# Altium schematic symbol library En.SCHLIB: 144 symbols (part 1 of 2)
Pins are listed as number, name and electrical type; pins without a type are passive.

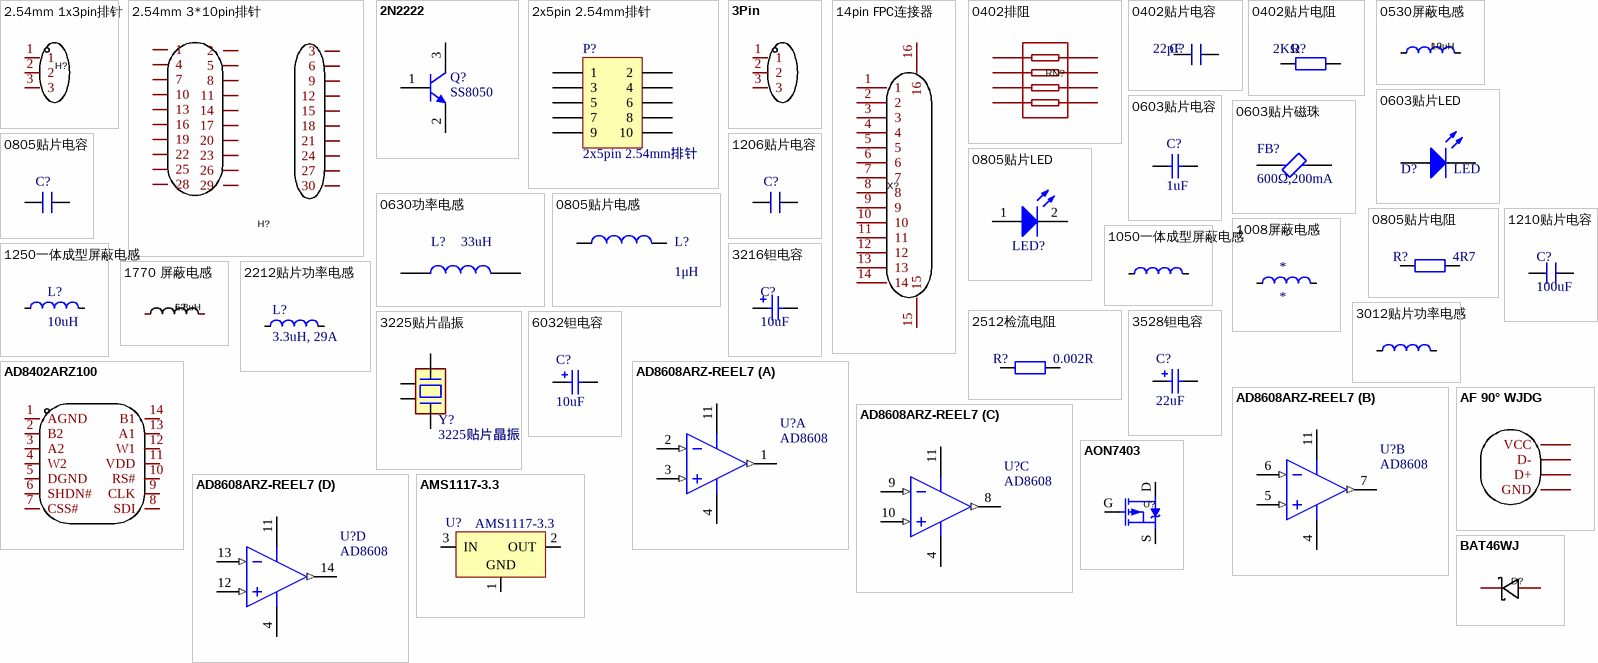
[diagram p0: symbols 2.54mm 1x3pin排针 to BAT46WJ]

## 2.54mm 1x3pin排针
designator H?, comment PZ254V-11-03P  (value not drawn)
2.54mm 1x3pin排针; Manufacturer: XFCN(兴飞); Symbol: PZ254V-11-03P_C2937625; Add into BOM: yes; Pin Structure: 1x3P; Circluar Pins/Square Pins: 方针; Current Rating (Max): 3A; Voltage Rating (Max): 250V; Device: PZ254V-11-03P; LCSC Part Name: 间距:2.54mm 1x3P 直插 方针; Supplier Part: C2937625; Manufacturer Part: PZ254V-11-03P; Supplier Footprint: 插件,P=2.54mm; JLCPCB Part Class: Extended Part; Datasheet: https://atta.szlcsc.com/upload/public/pdf/source/20200309/C492402_8335C3D49C4E4C618838D59BB1D024C1.pdf; Supplier: LCSC; Convert to PCB: yes; Pitch: 2.54mm; Row Spacing: -; Mounting Type: 直插; Number of Rows: 单排; Number of Pins: 3P; Length of Mating Pin: 6mm; Insulation Height: 2.5mm; Length of End Connection Pin: 3mm; Operating Temperature Range: -40℃~+105℃; Color: 黑色
footprint HDR-TH_3P-P2.54-V-M
pins: 1, 2, 3

## 2.54mm 3*10pin排针
designator H?  (value not drawn)
Manufacturer: Wcon(维峰电子); Symbol: 1125-1317G0S116C001; Add into BOM: yes; Pin Structure: 3x17P; Circluar Pins/Square Pins: 方针; Current Rating (Max): 3A; Device: 1125-1317G0S116C001; LCSC Part Name: 间距:2.54mm 3x17P 直插 方针; Supplier Part: C920773; Manufacturer Part: 1125-1317G0S116C001; Supplier Footprint: 插件,P=2.54mm; JLCPCB Part Class: Extended Part; Datasheet: https://atta.szlcsc.com/upload/public/pdf/source/20211207/30DA2ABB6762517FDD65C6A2AE5F4869.pdf; Supplier: LCSC; Convert to PCB: yes; Pitch: 2.54mm; Row Spacing: 2.54mm; Mounting Type: 直插; Number of Rows: 三排; Number of Pins: 51P; Voltage Rating (Max): -; Length of Mating Pin: 6.1mm; Insulation Height: 2.5mm; Length of End Connection Pin: 3mm; Operating Temperature Range: -40℃~+105℃; Color: 黑色
footprint HDR-TH_51P-P2.54-V-M-R3-C17
pins: 1, 2, 3, 4, 5, 6, 7, 8, 9, 10, 11, 12, 13, 14, 15, 16, 17, 18, 19, 20, 21, 22, 23, 24, 25, 26, 27, 28, 29, 30

## 2N2222
designator Q?, comment SS8050
三极管
footprint SOT-23-3_L2.9-W1.3-P1.90-LS2.4-BR
pins: 1 B, 2 E, 3 C

## 2x5pin 2.54mm排针
designator P?
LatestRevisionDate: 17-Jul-2002; LatestRevisionNote: Re-released for DXP Platform.; Publisher: Altium Limited
footprint HDR2.54-LI-2x5P (双排排针，5x2脚)
signal-integrity model Connector
pins: 1, 2, 3, 4, 5, 6, 7, 8, 9, 10

## 3Pin
designator U?, comment ZX-XH2.54-3PZZ  (value not drawn)
XH2.54 3Pin 接口; Manufacturer: Megastar(兆星); Add into BOM: yes; Pins Structure: 1x3P; Pitch: 2.54mm; Reference Series: XH; Number of PINs Per Row: 3; Current Rating (Max): 3A; Symbol: ZX-XH2.54-3PZZ; Device: ZX-XH2.54-3PZZ; Supplier: LCSC; Supplier Part: C7429633; Manufacturer Part: ZX-XH2.54-3PZZ; JLCPCB Part Class: Extended Part; LCSC Part Name: ZX-XH2.54-3PZZ; Supplier Footprint: 插件,P=2.54mm; Datasheet: https://atta.szlcsc.com/upload/public/pdf/source/20230619/AE17037A2CFDBE8D9CBA775D61AD0A84.pdf; Convert to PCB: yes; Mounting Style: 直插; Number of Pins: 3P; Number of Rows: 1; Row Spacing: -; Contact Material: 黄铜; Contact Plating: 锡; Operating Temperature Range: -25℃~+85℃
footprint CONN-TH_3P-P2.54_2501S-3P
pins: 1, 2, 3

## 14pin FPC连接器
designator X?  (value not drawn)
Manufacturer: JS(钜硕电子); Symbol: AFC01-S14FCA-00; Add into BOM: yes; Locking Feature: 翻盖式; Number of Contacts: 14P; Pitch: 0.5mm; FFC, FCB Thickness: 0.3mm; Device: AFC01-S14FCA-00; Supplier: LCSC; Supplier Part: C262663; Manufacturer Part: AFC01-S14FCA-00; JLCPCB Part Class: Extended Part; LCSC Part Name: 间距:0.5mm P数:14P 翻盖式 下接; Supplier Footprint: SMD,P=0.5mm,卧贴; Datasheet: https://atta.szlcsc.com/upload/public/pdf/source/20190816/C413942_2A72D1AC756EAE17EEDF756A339D4500.pdf; Convert to PCB: yes; Contact Type: 下接; Mounting Type: 卧贴; Height Above Board: 2mm; Operating Temperature Range: -
footprint FPC-SMD_AFC01-S14FCA-00
pins: 1, 2, 3, 4, 5, 6, 7, 8, 9, 10, 11, 12, 13, 14, 15, 16

## 0402排阻
designator RN?  (value not drawn)
Manufacturer: UNI-ROYAL(厚声); Symbol: 4D02WGJ0103TCE; Add into BOM: yes; Number of Resistors: 4; Value: 10kΩ; Tolerance: ±5%; Power(Watts): 62.5mW; Temperature Coefficient: ±200ppm/℃; Device: 4D02WGJ0103TCE; LCSC Part Name: 10kΩ ±5%; Supplier Part: C25725; Manufacturer Part: 4D02WGJ0103TCE; Supplier Footprint: 0402x4; JLCPCB Part Class: Extended Part; Datasheet: https://atta.szlcsc.com/upload/public/pdf/source/20191224/C474318_2527498AE30E813171187CCD28401A71.pdf; Supplier: LCSC; Convert to PCB: yes; Number of Pins: 8
footprint RES-ARRAY-SMD_0402-8P-L2.0-W1.0-BL
pins: 1, 2, 3, 4, 5, 6, 7, 8

## 0402贴片电容
designator C?, comment 22pF
贴片电容0402
footprint c0402
pins: 1, 2

## 0402贴片电阻
designator R?, comment 2KΩ
0402贴片电阻; W: *
footprint R0402 (1/16W)
pins: 1, 2

## 0530屏蔽电感
designator L?, comment 10uH
一体成型屏蔽电感，0530封装，额定电流3A; Manufacturer: XR(祥如); Symbol: XR0530-100M; Add into BOM: yes; Tolerance: ±20%; Rated Current: 3.2A; Saturation Current (Isat): 3.5A; DC Resistance (DCR): 125mΩ; Type: 一体成型电感; Device: XR0530-100M; LCSC Part Name: 10uH ±20% 3.5A; Supplier Part: C5307602; Manufacturer Part: XR0530-100M; Supplier Footprint: SMD,0530; JLCPCB Part Class: Extended Part; Datasheet: https://atta.szlcsc.com/upload/public/pdf/source/20240328/42FE63A3232C4AF7EB8F1CDEDD5FC69F.pdf; Supplier: LCSC; Convert to PCB: yes; Value: 10uH
footprint IND-SMD_L5.4-W5.2
3D model IND-SMD_L5.4-W5.2-H3.0
pins: 1, 2

## 0603贴片LED
designator D?, comment LED
0603LED
footprint LED 0603R (红色0603LED)
pins: 1 A, 2 K

## 0603贴片电容
designator C?, comment 1uF
0603贴片电容
simulation model CAP (Capacitor)
signal-integrity model Cap
footprint C 0603_M (无极性贴片电容)
pins: 1, 2

## 0603贴片磁珠
designator FB?, comment 600Ω,200mA
0603贴片磁珠
footprint FB0603_M (0603贴片磁珠)
pins: 1, 2

## 0630功率电感
designator L?, comment 33uH
一体成型屏蔽电感
simulation model INDUCTOR (Inductor)
signal-integrity model Inductor Iron
footprint L-SMD-0630 (一体化成型电感)
pins: 1, 2

## 0805贴片LED
designator LED?, comment LED  (value not drawn)
0805贴片LED
footprint led0805 (1/8W)
pins: 1 A, 2 K

## 0805贴片电容
designator C?, comment 100nF  (value not drawn)
0805贴片电容
footprint C0805
pins: 1, 2

## 0805贴片电感
designator L?, comment 1μH
0805贴片电感
footprint L0805
pins: 1, 2

## 0805贴片电阻
designator R?, comment 4R7
0805贴片电阻
simulation model RESISTOR (Resistor)
signal-integrity model Res
footprint R 0805_M (1/8W贴片电阻)
pins: 1, 2

## 1008屏蔽电感
designator *
footprint IND-SMD_L2.5-W2.0
pins: 1, 2

## 1050一体成型屏蔽电感
designator L?, comment 10uH  (value not drawn)
1050一体成型屏蔽电感; Manufacturer: DMBJ(振宝佳); Symbol: CXP1050-4R7M-AG(4.7UH); Add into BOM: yes; Value: 4.7uH; Tolerance: ±20%; Rated Current: 9.5A; Saturation Current (Isat): 15A; DC Resistance (DCR): 15mΩ; Type: 一体成型电感; Device: CXP1050-4R7M-AG(4.7uh); LCSC Part Name: 4.7uH ±20% 15A; Supplier Part: C7461389; Manufacturer Part: CXP1050-4R7M-AG(4.7uh); Supplier Footprint: 1050; JLCPCB Part Class: Extended Part; Datasheet: https://atta.szlcsc.com/upload/public/pdf/source/20230706/7F3A5B39C5AD80A91C9FA782B54A296B.pdf; Supplier: LCSC; Convert to PCB: yes
footprint IND-SMD_L11.0-W10.2
pins: 1, 2

## 1206贴片电容
designator C?, comment 100nF  (value not drawn)
1206贴片电容
footprint 1206
pins: 1, 2

## 1210贴片电容
designator C?, comment 100uF
1210贴片电容
footprint 1210
pins: 1, 2

## 1250一体成型屏蔽电感
designator L?, comment 10uH
1250一体成型屏蔽电感
footprint IND-SMD_L13.5-W12.8
pins: 1, 2

## 1770 屏蔽电感
designator L?, comment 6.8uH
Manufacturer: SXN(顺翔诺); Symbol: SMMS1770-3R3M; Add into BOM: yes; Value: 3.3uH; Tolerance: ±20%; Rated Current: 28A; Saturation Current (Isat): 54A; DC Resistance (DCR): 4.2mΩ; Type: 一体成型电感; Device: SMMS1770-3R3M; LCSC Part Name: 3.3uH ±20% 54A; Supplier Part: C2976964; Manufacturer Part: SMMS1770-3R3M; Supplier Footprint: SMD,17.5x17.15x7mm; JLCPCB Part Class: Extended Part; Datasheet: https://atta.szlcsc.com/upload/public/pdf/source/20220224/D8C8E12B51A4AD75CA32F676574334C0.pdf; Supplier: LCSC; Convert to PCB: yes; Ratings: -
footprint IND-SMD_L17.5-W17.2
3D model IND-SMD_L17.5-W17.2-H7.0
pins: 1, 2

## 2212贴片功率电感
designator L?, comment 3.3uH, 29A
2212贴片功率电感; Manufacturer Part Number: 74435580330; Manufacturer: Wurth Elektronik; DC Resistance: 1.7mOhm; Material: MnZn; Self Resonant Frequency: 26.5MHz; Saturation Current: 45A; Rated Inductance: 2.85uH; ComponentLink1Description: Manufacturer; ComponentLink1URL: http://www.we-online.de; ComponentLink2Description: Datasheet; ComponentLink2URL: https://www.we-online.com/catalog/datasheet/74435580330.pdf; Operating Temperature: -40 to +125degC; Packaging: Tape and Reel; Published Date: April 2020; Rated Current: 29A; Size: 2212; Inductance: 3.3uH; Mounting Technology: SMT
footprint WE-HCI_2212
pins: 1, 2

## 2512检流电阻
designator R?, comment 0.002R
2512检流电阻
footprint R 2512_M (1W贴片电阻)
pins: 1, 2

## 3012贴片功率电感
designator L?, comment FNR3012S100MT  (value not drawn)
3012贴片功率电感; Manufacturer: cjiang(长江微电); Value: 10uH; Add into BOM: yes; Tolerance: ±20%; Rated Current: 900mA; Saturation Current (Isat): 880mA; DC Resistance (DCR): 345mΩ; Symbol: FNR3012S100MT; Device: FNR3012S100MT; Supplier: LCSC; Supplier Part: C528017; Manufacturer Part: FNR3012S100MT; JLCPCB Part Class: Extended Part; LCSC Part Name: 10uH ±20% 880mA; Supplier Footprint: SMD,3x3mm; Datasheet: https://atta.szlcsc.com/upload/public/pdf/source/20190327/C167925_9EFF0AABC4CA629C2CC95961DBF7D39D.pdf; Convert to PCB: yes; Type: -; Ratings: -
footprint IND-SMD_L3.0-W3.0
pins: 1, 2

## 3216钽电容
designator C?, comment 10uF
3216钽电容
footprint 3216
pins: 1, 2

## 3225贴片晶振
designator Y?
Value: 16M
footprint OSC-3225-4P (3.2*2.5*0.7mm(长宽高)                             淘宝ID:黄晶宝石)
pins: 1, 2, 3, 4

## 3528钽电容
designator C?, comment 22uF
3528钽电容
simulation model CAP (Capacitor)
signal-integrity model Cap Pol
footprint CD B(3528) (长3.5mm，宽2.8mm，厚1.9mm)
pins: 1, 2
1 alternate drawing of the same symbol

## 6032钽电容
designator C?, comment 10uF
6032钽电容
simulation model CAP (Capacitor)
signal-integrity model Cap Pol
footprint CD C(6032) (长6.0mm，宽3.2mm，厚2.5mm)
pins: 1, 2
1 alternate drawing of the same symbol

## AD8402ARZ100
designator U?  (value not drawn)
数字电位器; Manufacturer: ADI(亚德诺)/LINEAR; Add into BOM: yes; Symbol: AD8402ARZ100; Device: AD8402ARZ100; LCSC Part Name: AD8402ARZ100; Supplier Part: C652776; Manufacturer Part: AD8402ARZ100; Supplier Footprint: SOIC-14; JLCPCB Part Class: Extended Part; Datasheet: https://atta.szlcsc.com/upload/public/pdf/source/20200109/C467169_22C6BB18B1DB76A0432D458D3EFFE4D7.pdf; Supplier: LCSC; Convert to PCB: yes; Taper: -; Configuration: -; Number of Circuits: -; Number of Taps: -; Resistance (Ohms): -; Interface: -; Memory Type: -; Supply Voltage: -; Tolerance: -; Temperature Coefficient (Typ): -; Resistance - Wiper (Ohms) (Typ): -; Operating Temperature: -
footprint SOIC-14_L8.7-W3.9-P1.27-LS6.0-BL
pins: 1 AGND, 2 B2, 3 A2, 4 W2, 5 DGND, 6 SHDN#, 7 CSS#, 8 SDI, 9 CLK, 10 RS#, 11 VDD, 12 W1, 13 A1, 14 B1

## AD8608ARZ-REEL7
designator U?, comment AD8608
四通道运放; Manufacturer: Analog Devices; PartNumber: AD8608ARZ-REEL7; Amplifiers Per Package: 4; Input Bias Current: 200fA; Input Offset Voltage: 20uV; Iq/Amp: 1.2mA; Slew Rate: 5V/us; Small Signal Bandwidth: 10MHz; V Span Max: 6V; V Span Min: 2.7V; DatasheetVersion: Rev. L; PackageVersion: 060606-A; PackageReference: R-14; PackageDescription: 14-Pin Standard Small Outline Package, Body 8.65 x 3.9 mm, Pitch 1.27 mm; Supplier 1: Digi-Key; Supplier Part Number 1: AD8608ARZ-REEL7-ND; Supplier 2: Newark; Supplier Part Number 2: 59K6933; Generic Part Number: AD8608; Mounting Technology: Surface Mount; Code_JEDEC: MS-012-AB; ComponentLink1Description: Manufacturer URL; ComponentLink1URL: http://www.analog.com/en/index.html; ComponentLink2Description: Datasheet; ComponentLink2URL: http://www.analog.com/static/imported-files/data_sheets/AD8605_8606_8608.pdf; ComponentLink3Description: Package Specification; ComponentLink3URL: http://www.analog.com/static/imported-files/packages/PKG_PDF/SOIC_Narrow%20(R)/R_14.pdf; ComponentLink4Description: Reference Circuit; ComponentLink4URL: http://www.analog.com/en/all-operational-amplifiers-op-amps/operational-amplifiers-op-amps/ad8608/products/product.html#product-recommendations
footprint SOP14_N (8.7*6.2*1.8mm（长宽高）)
pins on every part: 4 +V (power), 11 -V (power)
part A pins: 1 OUT A (out), 2 -IN A (in), 3 +IN A (in)
part B pins: 5 +IN B (in), 6 -IN B (in), 7 OUT B (out)
part C pins: 8 OUT C (out), 9 -IN C (in), 10 +IN C (in)
part D pins: 12 +IN D (in), 13 -IN D (in), 14 OUT D (out)

## AF 90° WJDG
designator USB?  (value not drawn)
Manufacturer: SHOU HAN(首韩); Add into BOM: yes; Connector Type: Type-A; Gender: 母; Number of Ports: 1; Number of Contacts: 4P; Current Rating - Power (Max): 1.5A; Symbol: AF 90° WJDG; Device: AF 90° WJDG; LCSC Part Name: Type-A 母 弯插; Supplier Part: C456018; Manufacturer Part: AF 90° WJDG; Supplier Footprint: 插件; JLCPCB Part Class: Extended Part; Datasheet: https://atta.szlcsc.com/upload/public/pdf/source/20191113/C456018_B104E062BEB8E11E57E63560E04EE13A.pdf; Supplier: LCSC; Convert to PCB: yes; Standard: USB 2.0; Mounting Style: 弯插; Operating Temperature Range: -25℃~+85℃
footprint USB-A-TH_AF-WJDG
pins: 1 VCC, 2 D-, 3 D+, 4 GND

## AMS1117-3.3
designator U?
线性稳压芯片; PartNumber: LM1117IDT-3.3; Manufacturer: National Semiconductor; PackageTopMarking: NSUZXYTT*LM1117*IDT-3.3; PowerWise: N; CompType: LDO IC; High-Reliability: Y; DatasheetVersion: Apr-2006; PackageVersion: revD, Feb-2009; PackageReference: TD03B; PackageDescription: TO252, Molded, Jedec, 6.8 x 6.10 x 2.30mm Body, 3 Lead, 2.28mm Pitch, Surface Mount; RoHS: N; PinCount: 3; Code_JEDEC: TO-252-AA; ComponentLink1Description: Manufacturer URL; ComponentLink1URL: http://www.national.com/; ComponentLink2Description: LM1117 Datasheet; ComponentLink2URL: http://www.national.com/ds/LM/LM1117.pdf; ComponentLink3Description: LM1117 Web Page; ComponentLink3URL: http://www.national.com/pf/LM/LM1117.html; ComponentLink4Description: TD03B Package Page; ComponentLink4URL: http://www.national.com/packaging/folders/td03b.html
footprint sot-223
pins: 1 GND (power), 2 OUT (power), 3 IN (power)

## AON7403
designator U?  (value not drawn)
Manufacturer: TECH PUBLIC(台舟); Symbol: AON7403_C5310961; Add into BOM: yes; Device: AON7403_C5310961; LCSC Part Name: AON7403; Supplier Part: C5310961; Manufacturer Part: AON7403; Supplier Footprint: PDFN-8; JLCPCB Part Class: Extended Part; Datasheet: https://atta.szlcsc.com/upload/public/pdf/source/20221212/36DA98EDFE73327CB4574501A775E746.pdf; Supplier: LCSC; Convert to PCB: yes
footprint DFN-8_L3.0-W3.0-P0.65-BL
pins: D, G, S

## BAT46WJ
designator D?, comment BAT46WJ,115  (value not drawn)
小信号肖特基二极管; Manufacturer: Nexperia(安世); Add into BOM: yes; Forward Voltage (Vf@If): 850mV@250mA; Reverse Voltage (Vr): 100V; Average Rectified Current (Io): 250mA; Reverse Leakage Current (Ir): 9uA@100V; Symbol: BAT46WJ,115; Device: BAT46WJ,115; LCSC Part Name: 电压:100V 电流:250mA; Supplier Part: C114696; Manufacturer Part: BAT46WJ,115; Supplier Footprint: SOD-323F; JLCPCB Part Class: Extended Part; Datasheet: https://atta.szlcsc.com/upload/public/pdf/source/20170620/1497944776306.pdf; Supplier: LCSC; Convert to PCB: yes
footprint SOD-323F_L2.0-W1.6-LS2.5-RD
3D model SOD-323F_L1.6-W1.3-H1.1-LS2.7
pins: 1 K, 2 A

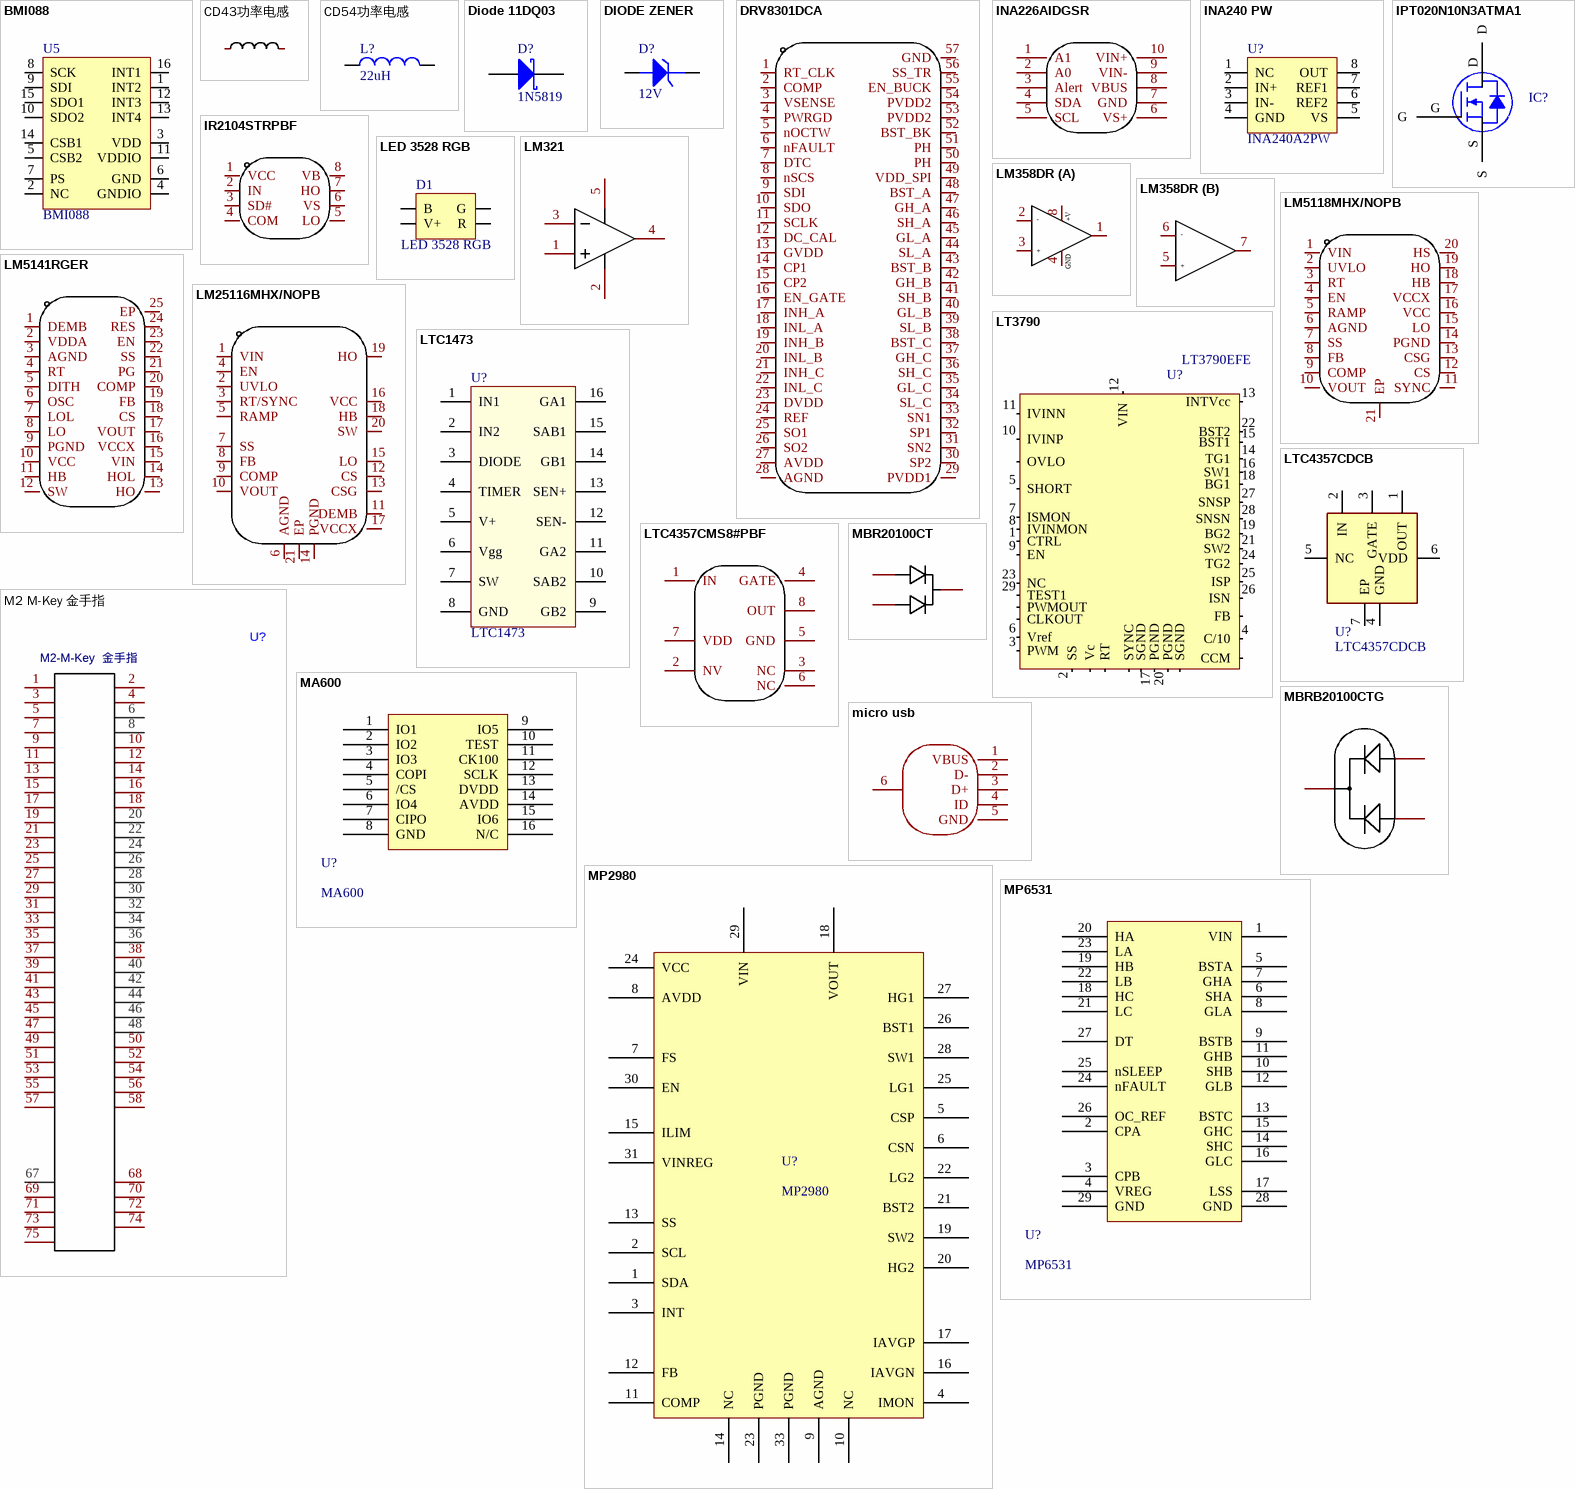
[diagram p1: symbols BMI088 to MP6531]

## BMI088
designator U5
BMI088 陀螺仪
footprint LGA-16_L4.5-W3.0-P0.50-BL
pins: 1 INT2, 2 NC, 3 VDD, 4 GNDIO, 5 CSB2, 6 GND, 7 PS, 8 SCK, 9 SDI, 10 SDO2, 11 VDDIO, 12 INT3, 13 INT4, 14 CSB1, 15 SDO1, 16 INT1

## CD43功率电感
designator L?, comment 10uH  (value not drawn)
功率电感; Manufacturer: MINGSTAR(登壹); Name: 22uH; Symbol: CD43N-220M; Add into BOM: yes; Value: 22uH; Tolerance: ±20%; Rated Current: 930mA; DC Resistance (DCR): 230mΩ; Device: CD43N-220M; LCSC Part Name: 22uH ±20%; Supplier Part: C2832086; Manufacturer Part: CD43N-220M; Supplier Footprint: SMD,4.5x4mm; JLCPCB Part Class: Extended Part; Datasheet: https://atta.szlcsc.com/upload/public/pdf/source/20210524/C2832086_3DE1D5B4C4DE81ED72BC30D5D3934BF5.pdf; Supplier: LCSC; Convert to PCB: yes; Saturation Current (Isat): -; Ratings: -
footprint IND-SMD_L4.5-W4.0
3D model IND-SMD_L4.5-W4.0-H3.2
pins: 1, 2

## CD54功率电感
designator L?, comment 22uH
功率电感; Code_IEC: 1005; Value: 47uH; Published: 8-Jun-2000; LatestRevisionDate: 29-May-2009; LatestRevisionNote: IPC-7351 Footprint Added.; PackageReference: 0402-A; Publisher: Altium Limited; PackageDescription: Chip Inductor; Code_JEITA: 0402
footprint CD54NP
pins: 1, 2

## Diode 11DQ03
designator D?, comment 1N5819
TVS; ComponentLink1Description: Manufacturer Link; ComponentLink1URL: http://www.irf.com/; ComponentLink2Description: Datasheet; ComponentLink2URL: http://www.irf.com/product-info/datasheets/data/11dq03.pdf
footprint SMA; pin to pad A>1 K>2
pins: 1 A, 2 K

## DIODE ZENER
designator D?, comment 12V
稳压二极管
footprint SOD-123; pin to pad A>1 K>2
pins: A, K

## DRV8301DCA
designator U?  (value not drawn)
三相电机驱动器; Manufacturer: TI(德州仪器); Add into BOM: yes; Symbol: DRV8301DCA; Device: DRV8301DCA; Supplier: LCSC; Supplier Part: C92113; Manufacturer Part: DRV8301DCA; JLCPCB Part Class: Extended Part; LCSC Part Name: DRV8301DCA; Supplier Footprint: HTSSOP-56-EP-6mm; Datasheet: https://www.ti.com/cn/lit/gpn/drv8301; Convert to PCB: yes
footprint HTSSOP-56_L14.0-W6.0-P0.50-LS8.1-BL-EP
pins: 1 RT_CLK, 2 COMP, 3 VSENSE, 4 PWRGD, 5 nOCTW, 6 nFAULT, 7 DTC, 8 nSCS, 9 SDI, 10 SDO, 11 SCLK, 12 DC_CAL, 13 GVDD, 14 CP1, 15 CP2, 16 EN_GATE, 17 INH_A, 18 INL_A, 19 INH_B, 20 INL_B, 21 INH_C, 22 INL_C, 23 DVDD, 24 REF, 25 SO1, 26 SO2, 27 AVDD, 28 AGND, 29 PVDD1, 30 SP2, 31 SN2, 32 SP1, 33 SN1, 34 SL_C, 35 GL_C, 36 SH_C, 37 GH_C, 38 BST_C, 39 SL_B, 40 GL_B, 41 SH_B, 42 GH_B, 43 BST_B, 44 SL_A, 45 GL_A, 46 SH_A, 47 GH_A, 48 BST_A, 49 VDD_SPI, 50 PH, 51 PH, 52 BST_BK, 53 PVDD2, 54 PVDD2, 55 EN_BUCK, 56 SS_TR, 57 GND

## INA226AIDGSR
designator U?  (value not drawn)
双向电流传感器; Manufacturer: TI(德州仪器); Add into BOM: yes; Supply Voltage: 0V~36V; Symbol: INA226AIDGSR; Device: INA226AIDGSR; Supplier: LCSC; Manufacturer Part: INA226AIDGSR; Supplier Part: C49851; JLCPCB Part Class: Extended Part; LCSC Part Name: INA226AIDGSR; Supplier Footprint: MSOP-10; Datasheet: https://www.ti.com/cn/lit/gpn/ina226; Convert to PCB: yes; Operating Temperature: -40℃~+125℃
footprint MSOP-10_L3.0-W3.0-P0.50-LS5.0-BL
pins: 1 A1, 2 A0, 3 Alert, 4 SDA, 5 SCL, 6 VS+, 7 GND, 8 VBUS, 9 VIN-, 10 VIN+

## INA240 PW
designator U?, comment INA240A2PW
双向电流传感器
footprint SSOP8 (SSOP, Plastic; 8 Leads; Body Width 5.3 mm; Pitch 0.65 mm)
pins: 1 NC, 2 IN+, 3 IN-, 4 GND, 5 VS, 6 REF2, 7 REF1, 8 OUT

## IPT020N10N3ATMA1
designator IC?  (value not drawn)
N沟道MOSFET N-CH 100V 300A 8HSOF; Manufacturer: Infineon Technologies; Rds On (Max) at Id, Vgs: 2 mOhm @ 150A, 10V; Vgs(th) (Max) at Id: 3.5V @ 272uA; Gate Charge (Qg): 156nC @ 10V; Input Capacitance (Ciss) at Vds: 11200pF @ 50V; Power - Max: 375W; Current Continuous Drain: 300A (Tc); Part Number: IPT020N10N3ATMA1; PartId: 7970; Supplier 1: Digi-Key; Supplier Part Number 1: IPT020N10N3ATMA1TR-ND; ComponentLink1Description: Datasheet; ComponentLink1URL: http://www.infineon.com/dgdl/IPT020N10N3_Rev1.1.pdf?folderId=db3a304313b8b5a60113cee8763b02d7&fileId=db3a30433e9d5d11013e9e58035b0158; ComponentLink2Description: Digi-Key Listing; ComponentLink2URL: http://www.digikey.com/product-detail/en/IPT020N10N3ATMA1/IPT020N10N3ATMA1TR-ND/4571872; Price: 3.3442; Type: MOSFET N-Channel, Metal Oxide; Device Package: 8-PowerSFN; Drain to Source Voltage (Vdss): 100V; Features: Standard
footprint INFINEON PG-HSOF-8-1
pins: D, G, S

## IR2104STRPBF
designator U?  (value not drawn)
栅极驱动器; Manufacturer: Infineon(英飞凌); Add into BOM: yes; Driven Configuration: 半桥; Load Type: MOSFET；IGBT; Number of Drivers: 2; Peak Output Current(sink): 360mA; Peak Output Current(source): 210mA; Supply Voltage: 10V~20V; Rise Time: 100ns; Fall Time: 50ns; Symbol: IR2104STRPBF; Device: IR2104STRPBF; Supplier: LCSC; Manufacturer Part: IR2104STRPBF; Supplier Part: C2960; JLCPCB Part Class: Extended Part; LCSC Part Name: IR2104STRPBF; Supplier Footprint: SOIC-8; Datasheet: https://atta.szlcsc.com/upload/public/pdf/source/20140906/1457707236579.pdf; Convert to PCB: yes; Operating Temperature: -40℃~+150℃@(Tj)
footprint SOIC-8_L4.9-W3.9-P1.27-LS6.0-BL
pins: 1 VCC, 2 IN, 3 SD#, 4 COM, 5 LO, 6 VS, 7 HO, 8 VB

## LED 3528 RGB
designator D1
3528 RGB LED
footprint LED 3528 4PIN
pins: 1 R (oc), 2 V+ (oc), 3 B (oc), 4 G (oc)

## LM321
designator U?  (value not drawn)
单通道运放; Manufacturer: MSKSEMI(美森科); Symbol: LM321_C5252901; Add into BOM: yes; Number of Circuits: 单路; Gain Bandwidth Product(GBP): 1.2MHz; Current - Input Bias(Ib): 50nA; Voltage - Input Offset(Vos): 5mV; Common Mode Rejection Ratio (CMRR): 80dB; Supply Voltage: 3V~36V; Output Type: 差分; Device: LM321_C5252901; Supplier: LCSC; Supplier Part: C5252901; Manufacturer Part: LM321; JLCPCB Part Class: Extended Part; LCSC Part Name: 增益带宽(GBP)1.2MHZ VIO:5mV LM321 丝印A63A; Supplier Footprint: SOT-23-5; Datasheet: https://atta.szlcsc.com/upload/public/pdf/source/20221111/09391BEFB737B52DE47367D309476179.pdf; Convert to PCB: yes; -3db Bandwidth: 1.2MHz; Operating Temperature: 0℃~+70℃
footprint SOT-23-5_L3.0-W1.7-P0.95-LS2.8-BR
pins: 1 IN+, 2 V-, 3 IN-, 4 OUT, 5 V+

## LM358DR
designator U?  (value not drawn)
双通道运放; Manufacturer: TI(德州仪器); Add into BOM: yes; Number of Circuits: 双路; Gain Bandwidth Product(GBP): 700kHz; Current - Input Bias(Ib): 20nA; Slew Rate(SR): 0.3V/us; Output Current: 40mA; Supply Current: 1mA; Symbol: LM358DR; Device: LM358DR; LCSC Part Name: 行业标准双路运算放大器; Supplier Part: C5423; Manufacturer Part: LM358DR; Supplier Footprint: SOIC-8; JLCPCB Part Class: Extended Part; Datasheet: https://www.ti.com/cn/lit/gpn/lm358; Supplier: LCSC; Convert to PCB: yes; -3db Bandwidth: -; Operating Temperature: 0℃~+70℃
footprint SOIC-8_L5.0-W4.0-P1.27-LS6.0-BL
part A pins: 1 OUT1, 2 -IN1, 3 +IN1, 4 GND, 8 +V
part B pins: 5 +IN2, 6 -IN2, 7 OUT2
part A text: +
part B text: +

## LM5118MHX/NOPB
designator U?  (value not drawn)
DC-DC BUCK-BOOST芯片; Manufacturer: TI(德州仪器); Add into BOM: yes; Function: 降压型；升降压型; Input Voltage: 3V~75V; Switching Frequency: 515kHz；200kHz; Synchronous Rectification: 否; Number of Outputs: 1; Topology: 降压式；降压-升压式; Symbol: LM5118MHX/NOPB; Device: LM5118MHX/NOPB; Supplier: LCSC; Manufacturer Part: LM5118MHX/NOPB; Supplier Part: C55878; JLCPCB Part Class: Extended Part; LCSC Part Name: LM5118MHX/NOPB; Supplier Footprint: TSSOP-20-EP; Datasheet: https://www.ti.com/cn/lit/gpn/lm5118; Convert to PCB: yes; Operating Temperature: -40℃~+125℃@(TJ)
footprint HTSSOP-20_L6.5-W4.4-P0.65-LS6.4-BL-EP
pins: 1 VIN, 2 UVLO, 3 RT, 4 EN, 5 RAMP, 6 AGND, 7 SS, 8 FB, 9 COMP, 10 VOUT, 11 SYNC, 12 CS, 13 CSG, 14 PGND, 15 LO, 16 VCC, 17 VCCX, 18 HB, 19 HO, 20 HS, 21 EP

## LM5141RGER
designator U?  (value not drawn)
Manufacturer: TI(德州仪器); Add into BOM: yes; Function: 降压型; Input Voltage: 3.8V~65V; Switching Frequency: 440kHz；2.2MHz; Synchronous Rectification: 否; Number of Outputs: 1; Topology: 降压式; Switch tube (built-in/external): 外置; Symbol: LM5141RGER; Device: LM5141RGER; LCSC Part Name: LM5141RGER; Supplier Part: C2658020; Manufacturer Part: LM5141RGER; Supplier Footprint: VQFN-24-EP(4x4); JLCPCB Part Class: Extended Part; Datasheet: https://www.ti.com/cn/lit/gpn/lm5141; Supplier: LCSC; Convert to PCB: yes; Operating Temperature: -40℃~+150℃@(TJ)
footprint VQFN-24_L4.0-W4.0-P0.50-TL-EP2.5
3D model VQFN-24_L4.0-W4.0-P0.50-TL-EP2.5
pins: 1 DEMB, 2 VDDA, 3 AGND, 4 RT, 5 DITH, 6 OSC, 7 LOL, 8 LO, 9 PGND, 10 VCC, 11 HB, 12 SW, 13 HO, 14 HOL, 15 VIN, 16 VCCX, 17 VOUT, 18 CS, 19 FB, 20 COMP, 21 PG, 22 SS, 23 EN, 24 RES, 25 EP

## LM25116MHX/NOPB
designator U?  (value not drawn)
Manufacturer: TI(德州仪器); Add into BOM: yes; Function: 降压型; Input Voltage: 6V~42V; Switching Frequency: 1MHz; Synchronous Rectification: 是; Number of Outputs: 1; Topology: 降压式; Switch tube (built-in/external): 外置; Symbol: LM25116MHX/NOPB; Device: LM25116MHX/NOPB; LCSC Part Name: LM25116MHX/NOPB; Supplier Part: C390951; Manufacturer Part: LM25116MHX/NOPB; Supplier Footprint: HTSSOP-20-EP; JLCPCB Part Class: Extended Part; Datasheet: https://www.ti.com/cn/lit/gpn/lm25116; Supplier: LCSC; Convert to PCB: yes; Operating Temperature: -40℃~+125℃@(TJ)
footprint HTSSOP-20_L6.5-W4.4-P0.65-LS6.4-BL-EP
3D model HTSSOP-20_L6.5-W4.4-H1.2-LS6.4-P0.65
pins: 1 VIN, 2 UVLO, 3 RT/SYNC, 4 EN, 5 RAMP, 6 AGND, 7 SS, 8 FB, 9 COMP, 10 VOUT, 11 DEMB, 12 CS, 13 CSG, 14 PGND, 15 LO, 16 VCC, 17 VCCX, 18 HB, 19 HO, 20 SW, 21 EP

## LT3790
designator U?, comment LT3790EFE
DC-DC BUCK-BOOST芯片
footprint TSSOP38
pins: 1 CTRL, 2 SS, 3 PWM, 4 C/10, 5 SHORT, 6 Vref, 7 ISMON, 8 IVINMON, 9 EN, 10 IVINP, 11 IVINN, 12 VIN, 13 INTVcc, 14 TG1, 15 BST1, 16 SW1, 17 PGND, 18 BG1, 19 BG2, 20 PGND, 21 SW2, 22 BST2, 23 NC, 24 TG2, 25 ISP, 26 ISN, 27 SNSP, 28 SNSN, 29 TEST1, 30 SGND, 31 PWMOUT, 32 CCM, 33 CLKOUT, 34 SYNC, 35 RT, 36 Vc, 37 FB, 38 OVLO, 39 SGND "90°"

## LTC1473
designator U?
功率电子开关
footprint 16P 0.635mm SSOP
pins: 1 IN1, 2 IN2, 3 DIODE, 4 TIMER, 5 V+, 6 Vgg, 7 SW, 8 GND, 9 GB2, 10 SAB2, 11 GA2, 12 SEN-, 13 SEN+, 14 GB1, 15 SAB1, 16 GA1

## LTC4357CDCB
designator U?
功率电子开关
footprint DFN-6_2x3_0.5
pins: 1 OUT, 2 IN, 3 GATE, 4 GND, 5 NC, 6 VDD, 7 EP

## LTC4357CMS8#PBF
designator U?  (value not drawn)
功率电子开关; Manufacturer: ADI(亚德诺); Add into BOM: yes; Input Voltage: 9V~80V; Symbol: LTC4357CMS8#PBF; Device: LTC4357CMS8#PBF; LCSC Part Name: LTC4357CMS8#PBF; Supplier Part: C107961; Manufacturer Part: LTC4357CMS8#PBF; Supplier Footprint: MSOP-8; JLCPCB Part Class: Extended Part; Datasheet: https://atta.szlcsc.com/upload/public/pdf/source/20170413/1492062869392.pdf; Supplier: LCSC; Convert to PCB: yes; Operating Temperature	-: 0℃~+70℃
footprint MSOP-8_L3.0-W3.0-P0.65-LS4.9-BL
pins: 1 IN, 2 NV, 3 NC, 4 GATE, 5 GND, 6 NC, 7 VDD, 8 OUT

## M2 M-Key 金手指
designator U?
footprint M.2_NGFF (Footprint not found)
pins: 1 CONFIG_3, 2 3.3V, 3 GND, 4 3.3V, 5 GND, 6 N/C, 7 N/C, 8 N/C, 9 N/C, 10 DAS/DSS #, 11 GND, 12 3.3V, 13 N/C, 14 3.3V, 15 N/C, 16 3.3V, 17 N/C, 18 3.3V, 19 N/C, 20 N/C, 21 CONFIG_0, 22 N/C, 23 Reserved, 24 N/C, 25 Reserved, 26 N/C, 27 GND, 28 N/C, 29 PETn1, 30 N/C, 31 PETp1, 32 N/C, 33 GND, 34 N/C, 35 PERn1, 36 N/C, 37 PERp1, 38 DEVSLP, 39 GND, 40 N/C, 41 PETn0, 42 N/C, 43 PETp0, 44 N/C, 45 GND, 46 N/C, 47 PERn0, 48 N/C, 49 PERp0, 50 PERST #, 51 GND, 52 CLKREQ #, 53 REFCLKN, 54 PEWake #, 55 REFCLKP, 56 Reserved / MFG Data, 57 GND, 58 Reserved / MFG Clock, 67 N/C, 68 SUSCLK(32kHz), 69 CONFIG_1, 70 3.3V, 71 GND, 72 3.3V, 73 GND, 74 3.3V, 75 CONFIG_2
text: M2-M-Key  金手指

## MA600
designator U?
磁编码器
footprint qfn-16-l3.0-w3.0-p0.50-tl-ep1.7
pins: 1 IO1, 2 IO2, 3 IO3, 4 COPI, 5 /CS, 6 IO4, 7 CIPO, 8 GND, 9 IO5, 10 TEST, 11 CK100, 12 SCLK, 13 DVDD, 14 AVDD, 15 IO6, 16 N/C

## MBR20100CT
designator D?  (value not drawn)
共阴极直插双二极管; Manufacturer: MDD; Symbol: MBR20100CT_C173465; Add into BOM: yes; Forward Voltage (Vf@If): 850mV@10A; Reverse Voltage (Vr): 100V; Average Rectified Current (Io): 10A; Device: MBR20100CT_C173465; Supplier: LCSC; Supplier Part: C173465; Manufacturer Part: MBR20100CT; JLCPCB Part Class: Extended Part; LCSC Part Name: 电压:100V 电流:10A; Supplier Footprint: TO-220AB-3; Datasheet: https://atta.szlcsc.com/upload/public/pdf/source/20230823/019C3101C6749BCDCCD7AF8DE8E356AE.pdf; Convert to PCB: yes
footprint TO-220AB-3_L10.4-W4.6-P2.54-T
pins: 1 A, 2 C, 3 A

## MBRB20100CTG
designator D?  (value not drawn)
功率二极管; Manufacturer: onsemi(安森美); Add into BOM: yes; Diode Configuration: 1对共阴极; Forward Voltage (Vf@If): 850mV@35A; Reverse Voltage (Vr): 100V; Average Rectified Current (Io): 10A; Reverse Leakage Current: 100uA@100V; Symbol: MBRB20100CTG; Device: MBRB20100CTG; Supplier: LCSC; Manufacturer Part: MBRB20100CTG; Supplier Part: C90225; JLCPCB Part Class: Extended Part; LCSC Part Name: 电压:100V 电流:10A; Supplier Footprint: D2PAK; Datasheet: https://atta.szlcsc.com/upload/public/pdf/source/20171014/C92093_15079757884501038571.PDF; Convert to PCB: yes; Power Dissipation: -; Reverse Recovery Time (trr): -; Operating Temperature: -65℃~+175℃@(Tj)
footprint TO-263-2_L10.0-W9.1-P5.08-LS15.2-BR
pins: 1, 3, 4

## micro usb
designator USB?, comment MICRO 6.4JB  (value not drawn)
Manufacturer: SHOU HAN(首韩); Add into BOM: yes; Connector Type: Micro-B; Gender: 母; Number of Contacts: 5P; Number of Ports: 1; Current Rating - Power (Max): 1A; Connect-Disconnect Life: 1万次; Core Colour: 黑色; Symbol: MICRO 6.4JB; Device: MICRO 6.4JB; LCSC Part Name: Micro-B 母 卧贴; Supplier Part: C2681558; Manufacturer Part: MICRO 6.4JB; Supplier Footprint: SMD; JLCPCB Part Class: Extended Part; Datasheet: https://atta.szlcsc.com/upload/public/pdf/source/20210107/C2681558_CE87DAC76B0B6D6A8499512BD182790B.pdf; Supplier: LCSC; Convert to PCB: yes; Standard: USB 2.0; Mounting Style: 卧贴; Operating Temperature Range: -20℃~+65℃
footprint MICRO-USB-SMD_C2681558
pins: 1 VBUS, 2 D-, 3 D+, 4 ID, 5 GND, 6 EH

## MP2980
designator U?
BUCK-BOOST Controller
footprint QFN-32 4x4
pins: 1 SDA, 2 SCL, 3 INT, 4 IMON, 5 CSP, 6 CSN, 7 FS, 8 AVDD, 9 AGND, 10 NC, 11 COMP, 12 FB, 13 SS, 14 NC, 15 ILIM, 16 IAVGN, 17 IAVGP, 18 VOUT, 19 SW2, 20 HG2, 21 BST2, 22 LG2, 23 PGND, 24 VCC, 25 LG1, 26 BST1, 27 HG1, 28 SW1, 29 VIN, 30 EN, 31 VINREG, 33 PGND

## MP6531
designator U?
FOC算法芯片
footprint QFN-28_L4.0-W4.0-P0.40-TL-EP2.6
pins: 1 VIN, 2 CPA, 3 CPB, 4 VREG, 5 BSTA, 6 SHA, 7 GHA, 8 GLA, 9 BSTB, 10 SHB, 11 GHB, 12 GLB, 13 BSTC, 14 SHC, 15 GHC, 16 GLC, 17 LSS, 18 HC, 19 HB, 20 HA, 21 LC, 22 LB, 23 LA, 24 nFAULT, 25 nSLEEP, 26 OC_REF, 27 DT, 28 GND, 29 GND

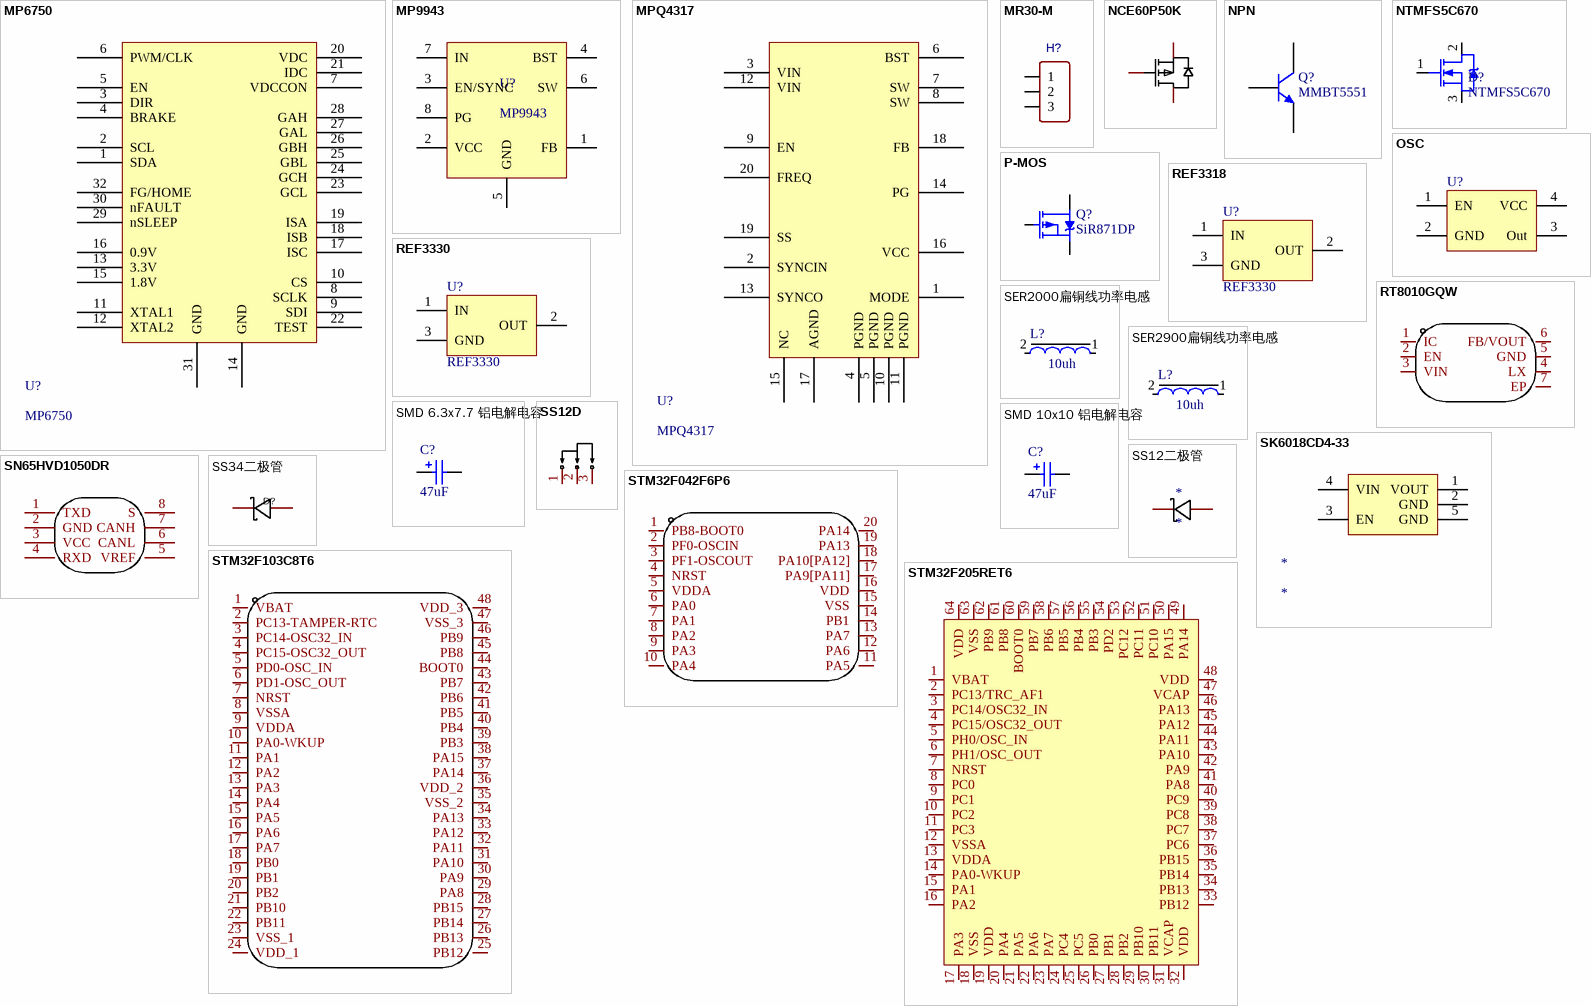
[diagram p2: symbols MP6750 to STM32F205RET6]

## MP6750
designator U?
FOC算法芯片
footprint QFN-32 4x4
pins: 1 SDA, 2 SCL, 3 DIR, 4 BRAKE, 5 EN, 6 PWM/CLK, 7 VDCCON, 8 SCLK, 9 SDI, 10 CS, 11 XTAL1, 12 XTAL2, 13 3.3V, 14 GND, 15 1.8V, 16 0.9V, 17 ISC, 18 ISB, 19 ISA, 20 VDC, 21 IDC, 22 TEST, 23 GCL, 24 GCH, 25 GBL, 26 GBH, 27 GAL, 28 GAH, 29 nSLEEP, 30 nFAULT, 31 GND, 32 FG/HOME

## MP9943
designator U?
BUCK Convertor 3A
footprint QFN-8 3x3
pins: 1 FB, 2 VCC, 3 EN/SYNC, 4 BST, 5 GND, 6 SW, 7 IN, 8 PG

## MPQ4317
designator U?
BUCK Convertor 7A
footprint QFN-20 4x4mm
pins: 1 MODE, 2 SYNCIN, 3 VIN, 4 PGND, 5 PGND, 6 BST, 7 SW, 8 SW, 9 EN, 10 PGND, 11 PGND, 12 VIN, 13 SYNCO, 14 PG, 15 NC, 16 VCC, 17 AGND, 18 FB, 19 SS, 20 FREQ

## MR30-M
designator H?  (value not drawn)
BOM_Manufacturer: AMASS(艾迈斯); Contributor: LCEDA_Lib; BOM_Supplier Part: C99873; BOM_Supplier: LCSC; BOM_Manufacturer Part: MR30-M; spicePre: H; spiceSymbolName: HDR-F-2.54_1x3
footprint MR30
pins: 1, 2, 3

## NCE60P50K
designator Q?  (value not drawn)
P沟道功率MOS管; Manufacturer: NCE(无锡新洁能); Add into BOM: yes; Type: 1个P沟道; Drain Source Voltage (Vdss): 60V; Continuous Drain Current (Id): 50A; Power Dissipation (Pd): 95W; Drain Source On Resistance (RDS(on)@Vgs,Id): 23mΩ@10V,20A; Gate Threshold Voltage (Vgs(th)@Id): 3.5V@250uA; Symbol: NCE60P50K; Device: NCE60P50K; LCSC Part Name: 1个P沟道 耐压:60V 电流:50A; Supplier Part: C130104; Manufacturer Part: NCE60P50K; Supplier Footprint: TO-252-2(DPAK); JLCPCB Part Class: Extended Part; Datasheet: https://atta.szlcsc.com/upload/public/pdf/source/20170919/C130104_1505787180031976877.pdf; Supplier: LCSC; Convert to PCB: yes
footprint TO-252-2_L6.6-W6.1-P4.57-LS9.9-TL-CW
pins: 1 G, 2 D, 3 S

## NPN
designator Q?, comment MMBT5551
NPN三极管; Published: 8-Jun-2000; LatestRevisionDate: 17-Jul-2002; LatestRevisionNote: Re-released for DXP Platform.; PackageReference: TO-226-AA; Publisher: Altium Limited; PackageDescription: TO, Flat Index; 3 In-Line, Axial Leads; Body Dia. 4.8mm; Leads 0.55 x 0.51 mm (max); Code_JEDEC: TO-226-AA
footprint SOT23-3N (3x1.3x1mm(长宽高)); pin to pad 1>3 2>1 3>2
pins: 1 C, 2 B, 3 E

## NTMFS5C670
designator D?
N沟道MOS管; Note: Pin 2 is electrically connected to pin 4.; Published: 8-Jun-2000; LatestRevisionDate: 17-Jul-2002; LatestRevisionNote: Re-released for DXP Platform.; DatasheetVersion: PD-9.814; PackageVersion: Feb-1997; PackageReference: TO-220AB; Publisher: Altium Limited; PackageDescription: TO, Thru-Hole, Vertical, Heatsink Mounted; 3 In-Line Leads; Pitch 2.54 mm; ComponentLink1Description: Manufacturer Link; ComponentLink1URL: http://www.irf.com/
footprint pg-tdson-8
pins: 1 G, 2 D, 3 S

## OSC
designator U?, comment XTAL S3225 12M 20pF  (value not drawn)
12M晶振
footprint XTAL-3225
footprint 3225-XTAL
pins: 1 EN, 2 GND, 3 Out, 4 VCC

## P-MOS
designator Q?, comment SiR871DP
P沟道MOS管
footprint PG-TDSON-8 - duplicate
pins: D, G, S

## REF3318
designator U?, comment REF3330
1.8V电压参考源
footprint SOT23-3N (3x1.3x1mm(长宽高))
pins: 1 IN, 2 OUT, 3 GND

## REF3330
designator U?
3V电压参考源
footprint SOT23-3N (3x1.3x1mm(长宽高))
footprint SOT23-3N (3x1.3x1mm(长宽高))
pins: 1 IN, 2 OUT, 3 GND

## RT8010GQW
designator U?  (value not drawn)
DC-DC 同步整流BUCK芯片; Manufacturer: RICHTEK(立锜); Add into BOM: yes; Function: 降压型; Switch tube (built-in/external): 内置; Symbol: RT8010GQW; Device: RT8010GQW; Supplier: LCSC; Manufacturer Part: RT8010GQW; Supplier Part: C130803; JLCPCB Part Class: Extended Part; LCSC Part Name: RT8010GQW; Supplier Footprint: WDFN-6-EP(2x2); Datasheet: https://atta.szlcsc.com/upload/public/pdf/source/20170918/C130803_1505703416972975329.pdf; Convert to PCB: yes; Input Voltage: -; Output Current (Max): -; Switching Frequency: -; Synchronous Rectification: -; Number of Outputs: -; Topology: -
footprint WDFN-6_L2.0-W2.0-P0.65-BL-EP
pins: 1 IC, 2 EN, 3 VIN, 4 LX, 5 GND, 6 FB/VOUT, 7 EP

## SER2000扁铜线功率电感
designator L?, comment 10uH
扁铜线功率电感; L: 10uh
footprint SER_2000
pins: 1 2, 2 1

## SER2900扁铜线功率电感
designator L?, comment 10uH
扁铜线功率电感; L: 10uh
footprint SER-2900
pins: 1 2, 2 1

## SK6018CD4-33
designator *
footprint DFN-4_L1.0-W1.0-P0.65-BL-EP
pins: 1 VOUT, 2 GND, 3 EN, 4 VIN, 5 GND

## SMD 6.3x7.7 铝电解电容
designator C?, comment value 47uF  (hidden comment: 铝电解电容)
SMD 6.3x7.7 铝电解电容; Published: 8-Jun-2000; LatestRevisionDate: 29-May-2009; LatestRevisionNote: IPC-7351 Footprint Added.; PackageReference: C0805; Publisher: Altium Limited; PackageDescription: Chip Capacitor
footprint CAP-SMD_BD6.3-L6.6-W6.6-FD
pins: 1, 2
1 alternate drawing of the same symbol

## SMD 10x10 铝电解电容
designator C?, comment value 47uF  (hidden comment: 铝电解电容)
SMD 10x10 铝电解电容; Published: 8-Jun-2000; LatestRevisionDate: 29-May-2009; LatestRevisionNote: IPC-7351 Footprint Added.; PackageReference: C0805; Publisher: Altium Limited; PackageDescription: Chip Capacitor
footprint C10X10
pins: 1, 2
1 alternate drawing of the same symbol

## SN65HVD1050DR
designator U?  (value not drawn)
CAN芯片; Manufacturer: TI(德州仪器); Add into BOM: yes; Supply Voltage: 4.5V~5.5V; Supply Current: 50mA; Name: SN65HVD1050DR; Symbol: SN65HVD1050DR; Device: SN65HVD1050DR; LCSC Part Name: 4.5V~5.5V; Supplier Part: C14019; Manufacturer Part: SN65HVD1050DR; Supplier Footprint: SOIC-8; JLCPCB Part Class: Extended Part; Datasheet: https://www.ti.com/cn/lit/gpn/sn65hvd1050; Supplier: LCSC; Convert to PCB: yes; Type: 收发器; Operating Temperature: -40℃~+125℃
footprint SOIC-8_L4.9-W3.9-P1.27-LS6.0-BL
pins: 1 TXD, 2 GND, 3 VCC, 4 RXD, 5 VREF, 6 CANL, 7 CANH, 8 S

## SS12D
designator SW?, comment SS12D10G4 071  (value not drawn)
单刀双掷开关; Manufacturer: SHOU HAN(首韩); Add into BOM: yes; Circuit: 单刀双掷; Pin Style: PC引脚; Switch Length: 12.7mm; Switch Width: 6.7mm; Switch Height: 6.4mm; Current Rating (DC): 2A; Voltage Rating (DC): 125V; Mechanical Life: 3千次; Symbol: SS12D10G4 071; Device: SS12D10G4 071; Supplier: LCSC; Supplier Part: C2887259; Manufacturer Part: SS12D10G4 071; JLCPCB Part Class: Extended Part; LCSC Part Name: SS12D10G4 071; Supplier Footprint: 插件; Datasheet: https://atta.szlcsc.com/upload/public/pdf/source/20210820/80D1704BBF3FCEE0435FCAA54C61E0A3.pdf; Convert to PCB: yes; Actuator Style: -; Mounting Style: 直插; Actuator Color: -; Current Rating (AC): -; Voltage Rating (AC): -; Operating Temperature: -16℃~+60℃
footprint SW-TH_SHOU-HAN_SS12D10G4
pins: 1, 2, 3

## SS12二极管
designator *
footprint SMA (DO-214AC(2010))
pins: 1 K, 2 A

## SS34二极管
designator D?, comment SS34B  (value not drawn)
硝基特二极管; Manufacturer: MDD; Symbol: SS14; Device: SS14_C2480; Add into BOM: yes; Diode Configuration: 独立式; Forward Voltage (Vf@If): 550mV@1A; Reverse Voltage (Vr): 40V; Average Rectified Current (Io): 1A; Reverse Leakage Current (Ir): 500uA@40V; Supplier: LCSC; Manufacturer Part: SS14; Supplier Part: C2480; JLCPCB Part Class: Basic Part; LCSC Part Name: 电压:40V 电流:1A; Supplier Footprint: SMA(DO-214AC); Datasheet: https://atta.szlcsc.com/upload/public/pdf/source/20230712/2DB6064CFBB99DE6DB116BEE8208BE66.pdf; Convert to PCB: yes
footprint SMA_L4.3-W2.6-LS5.2-RD
pins: 1 K, 2 A

## STM32F042F6P6
designator U?  (value not drawn)
Manufacturer: ST(意法半导体); Add into BOM: yes; Core Processor: ARM® Cortex®-M0; Voltage - Supply (Vcc/Vdd): 1.65V ~ 3.6V; Program Memory Size: 32kB; RAM Size: 6KB; Number of I/O: 16; A/D: 9X12bit; PWM: 6; UART/USART: 2 USART; USB Device: 1; Name: STM32F042F6P6; Symbol: STM32F042F6P6; Device: STM32F042F6P6; LCSC Part Name: STM32F042F6P6; Supplier Part: C81000; Manufacturer Part: STM32F042F6P6; Supplier Footprint: TSSOP-20; JLCPCB Part Class: Extended Part; Datasheet: https://atta.szlcsc.com/upload/public/pdf/source/20161226/1482720143189.pdf; Supplier: LCSC; Convert to PCB: yes; CAN: 1; Features: I2S,HDMI CEC
3D model TSSOP-20_L6.5-W4.4-H1.0-LS6.4-P0.65
footprint TSSOP20
pins: 1 PB8-BOOT0, 2 PF0-OSCIN, 3 PF1-OSCOUT, 4 NRST, 5 VDDA, 6 PA0, 7 PA1, 8 PA2, 9 PA3, 10 PA4, 11 PA5, 12 PA6, 13 PA7, 14 PB1, 15 VSS, 16 VDD, 17 PA9[PA11], 18 PA10[PA12], 19 PA13, 20 PA14

## STM32F103C8T6
designator U?  (value not drawn)
Manufacturer: ST(意法半导体); Add into BOM: yes; CPU Core: ARM-M3; Program Storage Size: 64KB; RAM Size: 20KB; GPIO Ports Number: 37; Operating Voltage Range: 2V~3.6V; CPU Maximum Speed: 72MHz; Program Memory Type: FLASH; ADC (Bit): 12bit; Universal Serial Bus: 有; Peripheral/Function: 看门狗；DMA；看门狗；温度传感器; Name: STM32F103C8T6; Symbol: STM32F103C8T6; Device: STM32F103C8T6; LCSC Part Name: STM32F103C8T6; Supplier Part: C8734; Manufacturer Part: STM32F103C8T6; Supplier Footprint: LQFP-48(7x7); JLCPCB Part Class: Extended Part; Datasheet: https://atta.szlcsc.com/upload/public/pdf/source/20220812/8363ACEC51AD55ECEB84799464F7CB85.pdf; Supplier: LCSC; Convert to PCB: yes; Operating Temperature Range: -40℃~+85℃; DAC (Bit): -; PWM (Bit): -; Internal Comparator: -; communication protocol: -; Watchdog: 有; Real-Time Clock: -; Infrared Data Association: 有; Low-Voltage Detect: 有; CCP Capture/Compare: -; Secure Digital Input and Output: -; Direct Memory Access: 有; Internal Oscillator: 有
footprint LQFP48 7X7_N (48脚，体宽7x7mm，脚距0.5mm)
pins: 1 VBAT, 2 PC13-TAMPER-RTC, 3 PC14-OSC32_IN, 4 PC15-OSC32_OUT, 5 PD0-OSC_IN, 6 PD1-OSC_OUT, 7 NRST, 8 VSSA, 9 VDDA, 10 PA0-WKUP, 11 PA1, 12 PA2, 13 PA3, 14 PA4, 15 PA5, 16 PA6, 17 PA7, 18 PB0, 19 PB1, 20 PB2, 21 PB10, 22 PB11, 23 VSS_1, 24 VDD_1, 25 PB12, 26 PB13, 27 PB14, 28 PB15, 29 PA8, 30 PA9, 31 PA10, 32 PA11, 33 PA12, 34 PA13, 35 VSS_2, 36 VDD_2, 37 PA14, 38 PA15, 39 PB3, 40 PB4, 41 PB5, 42 PB6, 43 PB7, 44 BOOT0, 45 PB8, 46 PB9, 47 VSS_3, 48 VDD_3

## STM32F205RET6
designator U?  (value not drawn)
Manufacturer: ST(意法半导体); Add into BOM: yes; CPU Core: ARM-M3; Program Storage Size: 512KB; RAM Size: 132KB; GPIO Ports Number: 51; Operating Voltage Range: 1.8V~3.6V; CPU Maximum Speed: 120MHz; Program Memory Type: FLASH; ADC (Bit): 12bit; Universal Serial Bus: 有; Peripheral/Function: DMA；LCD/LED驱动；PWM; Symbol: stm32f205ret6; Device: STM32F205RET6; LCSC Part Name: 高性能ARM Cortex-M3 MCU，具有512 KB Flash、120 MHz CPU和ART加速器; Supplier Part: C66278; Manufacturer Part: STM32F205RET6; Supplier Footprint: LQFP-64(10x10); JLCPCB Part Class: Extended Part; Datasheet: https://atta.szlcsc.com/upload/public/pdf/source/20161108/1478586390909.pdf; Supplier: LCSC; Convert to PCB: yes; Operating Temperature Range: -40℃~+85℃; DAC (Bit): 12bit; PWM (Bit): -; Internal Comparator: -; communication protocol: -; Watchdog: 有; Real-Time Clock: -; Infrared Data Association: 有; Low-Voltage Detect: 有; CCP Capture/Compare: -; LCD Module: 有; Secure Digital Input and Output: -; Direct Memory Access: 有; Internal Oscillator: 有
footprint LQFP-64_L10.0-W10.0-P0.50-LS12.0-BL
pins: 1 VBAT, 2 PC13/TRC_AF1, 3 PC14/OSC32_IN, 4 PC15/OSC32_OUT, 5 PH0/OSC_IN, 6 PH1/OSC_OUT, 7 NRST, 8 PC0, 9 PC1, 10 PC2, 11 PC3, 12 VSSA, 13 VDDA, 14 PA0-WKUP, 15 PA1, 16 PA2, 17 PA3, 18 VSS, 19 VDD, 20 PA4, 21 PA5, 22 PA6, 23 PA7, 24 PC4, 25 PC5, 26 PB0, 27 PB1, 28 PB2, 29 PB10, 30 PB11, 31 VCAP, 32 VDD, 33 PB12, 34 PB13, 35 PB14, 36 PB15, 37 PC6, 38 PC7, 39 PC8, 40 PC9, 41 PA8, 42 PA9, 43 PA10, 44 PA11, 45 PA12, 46 PA13, 47 VCAP, 48 VDD, 49 PA14, 50 PA15, 51 PC10, 52 PC11, 53 PC12, 54 PD2, 55 PB3, 56 PB4, 57 PB5, 58 PB6, 59 PB7, 60 BOOT0, 61 PB8, 62 PB9, 63 VSS, 64 VDD

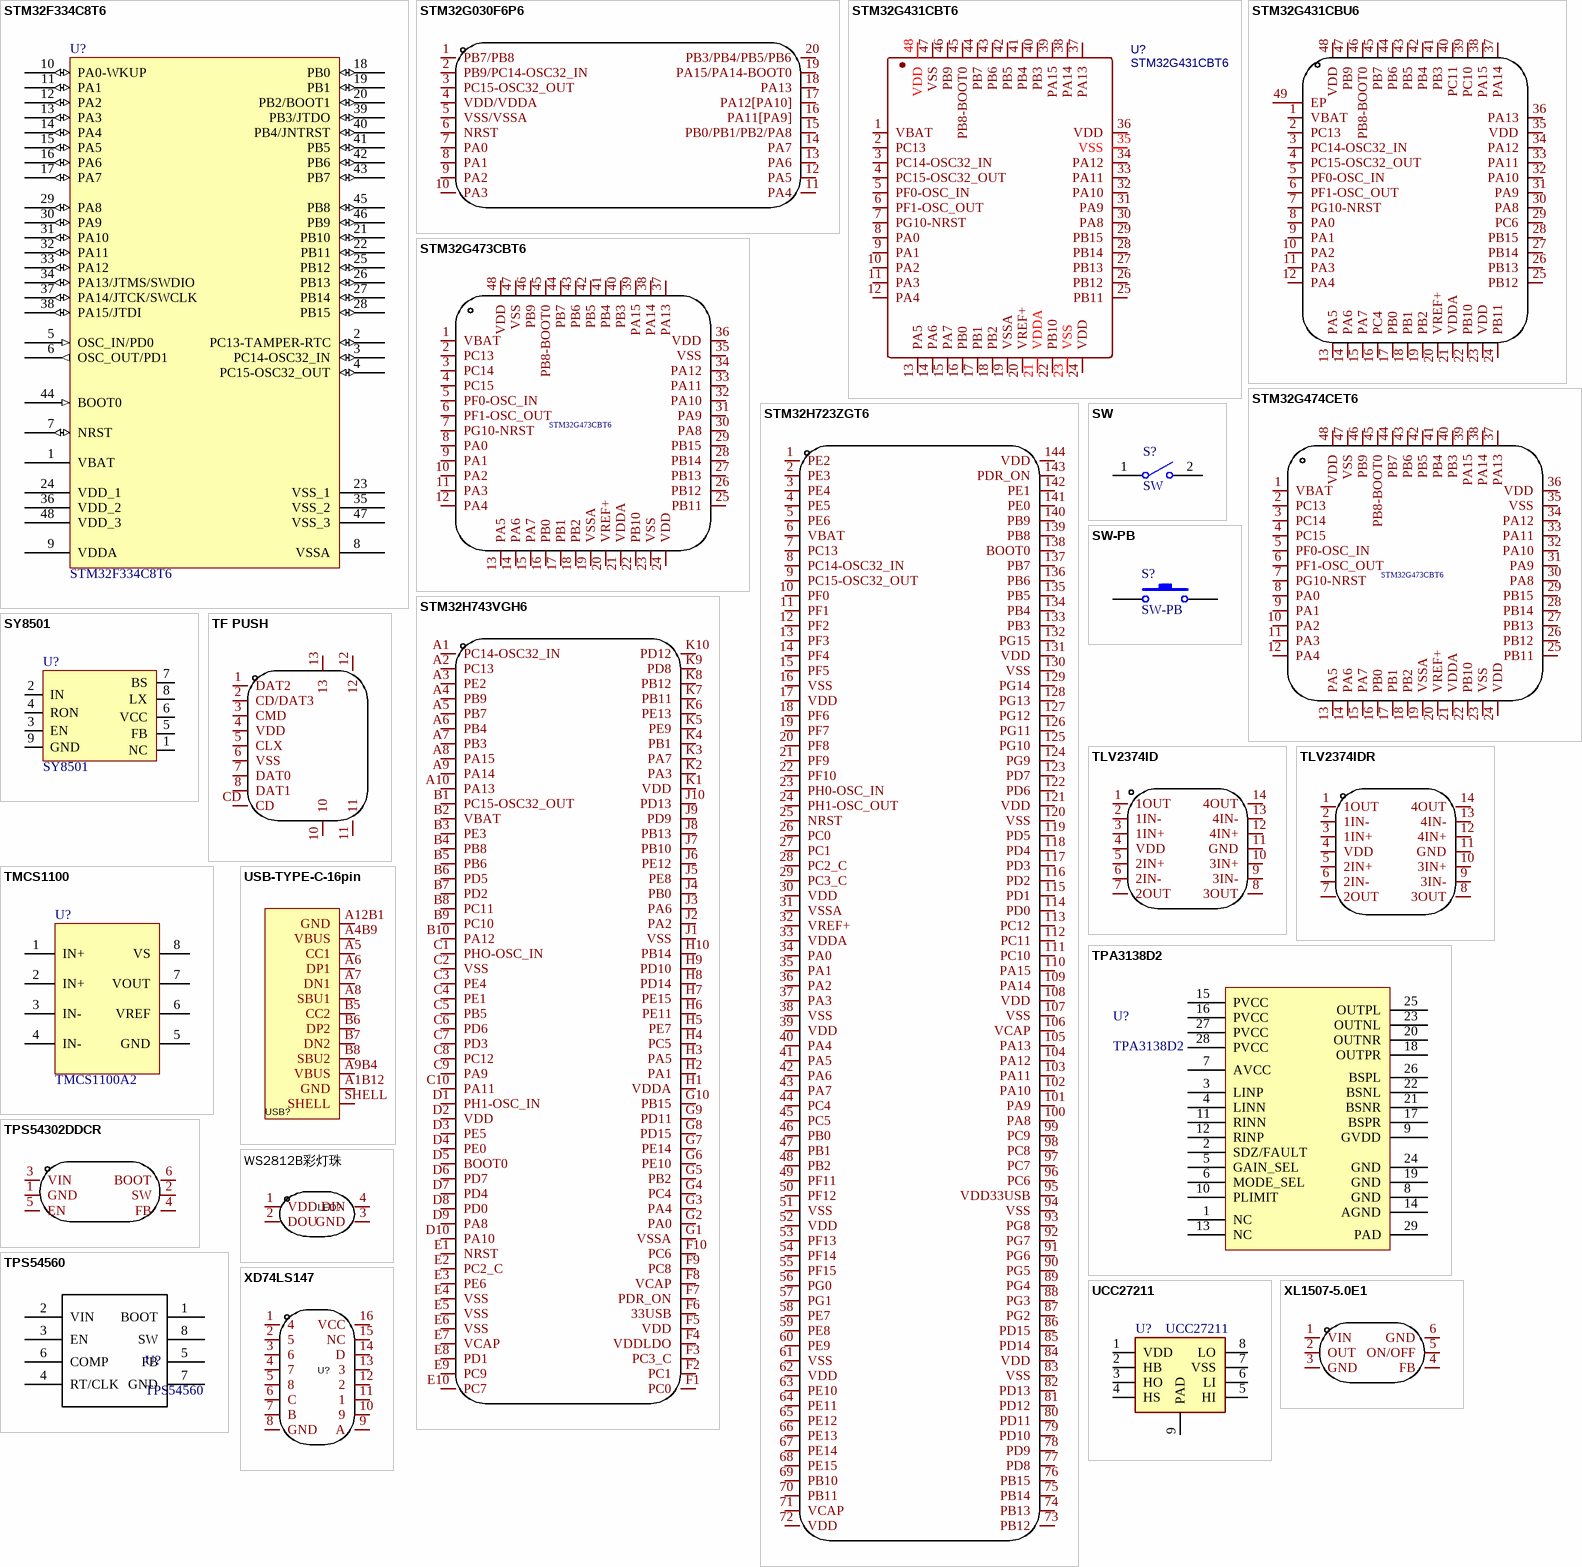
[diagram p3: symbols STM32F334C8T6 to XL1507-5.0E1]

## STM32F334C8T6
designator U?
footprint LQFP48 7X7_N (48脚，体宽7x7mm，脚距0.5mm)
pins: 1 VBAT (power), 2 PC13-TAMPER-RTC (io), 3 PC14-OSC32_IN (io), 4 PC15-OSC32_OUT (io), 5 OSC_IN/PD0 (in), 6 OSC_OUT/PD1 (out), 7 NRST (io), 8 VSSA (power), 9 VDDA (power), 10 PA0-WKUP (io), 11 PA1 (io), 12 PA2 (io), 13 PA3 (io), 14 PA4 (io), 15 PA5 (io), 16 PA6 (io), 17 PA7 (io), 18 PB0 (io), 19 PB1 (io), 20 PB2/BOOT1 (io), 21 PB10 (io), 22 PB11 (io), 23 VSS_1 (power), 24 VDD_1 (power), 25 PB12 (io), 26 PB13 (io), 27 PB14 (io), 28 PB15 (io), 29 PA8 (io), 30 PA9 (io), 31 PA10 (io), 32 PA11 (io), 33 PA12 (io), 34 PA13/JTMS/SWDIO (io), 35 VSS_2 (power), 36 VDD_2 (power), 37 PA14/JTCK/SWCLK (io), 38 PA15/JTDI (io), 39 PB3/JTDO (io), 40 PB4/JNTRST (io), 41 PB5 (io), 42 PB6 (io), 43 PB7 (io), 44 BOOT0 (in), 45 PB8 (io), 46 PB9 (io), 47 VSS_3 (power), 48 VDD_3 (power)

## STM32G030F6P6
designator U?  (value not drawn)
Manufacturer: ST(意法半导体); Add into BOM: yes; CPU Core: CM0; Program Storage Size: 32KB; RAM Size: 8KB; GPIO Ports Number: 18; Operating Voltage Range: 2V~3.6V; CPU Maximum Speed: 64MHz; Program Memory Type: FLASH; ADC (Bit): 12bit; Peripheral/Function: DMA；看门狗；看门狗; Internal Oscillator: 有; Symbol: STM32G030F6P6; Device: STM32G030F6P6; Supplier: LCSC; Supplier Part: C724040; Manufacturer Part: STM32G030F6P6; JLCPCB Part Class: Extended Part; LCSC Part Name: STM32G030F6P6; Supplier Footprint: TSSOP-20; Datasheet: https://atta.szlcsc.com/upload/public/pdf/source/20200511/C529329_A1CB615556C746C4EA827FCAD1461480.pdf; Convert to PCB: yes; Operating Temperature Range: -40℃~+85℃; DAC (Bit): -; PWM (Bit): -; Universal Serial Bus: -; Internal Comparator: -; communication protocol: -; Watchdog: -; Real-Time Clock: -; Infrared Data Association: -; Low-Voltage Detect: -; CCP Capture/Compare: -; Secure Digital Input and Output: -; Direct Memory Access: -
footprint TSSOP-20_L6.5-W4.4-P0.65-LS6.4-BL
pins: 1 PB7/PB8, 2 PB9/PC14-OSC32_IN, 3 PC15-OSC32_OUT, 4 VDD/VDDA, 5 VSS/VSSA, 6 NRST, 7 PA0, 8 PA1, 9 PA2, 10 PA3, 11 PA4, 12 PA5, 13 PA6, 14 PA7, 15 PB0/PB1/PB2/PA8, 16 PA11[PA9], 17 PA12[PA10], 18 PA13, 19 PA15/PA14-BOOT0, 20 PB3/PB4/PB5/PB6

## STM32G431CBT6
designator U?
BOM_Manufacturer: STMicroelectronics; Contributor: LCSC; BOM_Supplier: LCSC; BOM_Supplier Part: C529355; BOM_Manufacturer Part: STM32G431CBT6; BOM_JLCPCB Part Class: Extended Part; spicePre: U; spiceSymbolName: STM32G431CBT6
footprint LQFP-48
pins: 1 VBAT, 2 PC13, 3 PC14-OSC32_IN, 4 PC15-OSC32_OUT, 5 PF0-OSC_IN, 6 PF1-OSC_OUT, 7 PG10-NRST, 8 PA0, 9 PA1, 10 PA2, 11 PA3, 12 PA4, 13 PA5, 14 PA6, 15 PA7, 16 PB0, 17 PB1, 18 PB2, 19 VSSA, 20 VREF+, 21 VDDA, 22 PB10, 23 VSS, 24 VDD, 25 PB11, 26 PB12, 27 PB13, 28 PB14, 29 PB15, 30 PA8, 31 PA9, 32 PA10, 33 PA11, 34 PA12, 35 VSS, 36 VDD, 37 PA13, 38 PA14, 39 PA15, 40 PB3, 41 PB4, 42 PB5, 43 PB6, 44 PB7, 45 PB8-BOOT0, 46 PB9, 47 VSS, 48 VDD

## STM32G431CBU6
designator U?  (value not drawn)
Manufacturer: ST(意法半导体); Add into BOM: yes; CPU Core: ARM-M系列; Program Storage Size: 128KB; RAM Size: 32KB; GPIO Ports Number: 42; Operating Voltage Range: 1.71V~3.6V; CPU Maximum Speed: 170MHz; Program Memory Type: FLASH; ADC (Bit): 12bit; Peripheral/Function: DMA；PWM; Watchdog: 有; Name: STM32G431CBU6; Symbol: STM32G431CBU6; Device: STM32G431CBU6; LCSC Part Name: STM32G431CBU6; Supplier Part: C529356; Manufacturer Part: STM32G431CBU6; Supplier Footprint: UFQFPN-48(7x7); JLCPCB Part Class: Extended Part; Datasheet: https://atta.szlcsc.com/upload/public/pdf/source/20200511/C529354_7C66CF00837B904D0C15DCE45B69418C.pdf; Supplier: LCSC; Convert to PCB: yes; Operating Temperature Range: -40℃~+85℃; DAC (Bit): 12bit; PWM (Bit): -; Universal Serial Bus: -; Internal Comparator: -; communication protocol: -; Real-Time Clock: -; Infrared Data Association: 有; Low-Voltage Detect: 有; CCP Capture/Compare: -; Secure Digital Input and Output: -; Direct Memory Access: 有; Internal Oscillator: 有
footprint UFQFPN-48_L7.0-W7.0-P0.50-BL-EP
3D model UFQFPN-48_L7.0-W7.0-H0.6-P0.50
pins: 1 VBAT, 2 PC13, 3 PC14-OSC32_IN, 4 PC15-OSC32_OUT, 5 PF0-OSC_IN, 6 PF1-OSC_OUT, 7 PG10-NRST, 8 PA0, 9 PA1, 10 PA2, 11 PA3, 12 PA4, 13 PA5, 14 PA6, 15 PA7, 16 PC4, 17 PB0, 18 PB1, 19 PB2, 20 VREF+, 21 VDDA, 22 PB10, 23 VDD, 24 PB11, 25 PB12, 26 PB13, 27 PB14, 28 PB15, 29 PC6, 30 PA8, 31 PA9, 32 PA10, 33 PA11, 34 PA12, 35 VDD, 36 PA13, 37 PA14, 38 PA15, 39 PC10, 40 PC11, 41 PB3, 42 PB4, 43 PB5, 44 PB6, 45 PB7, 46 PB8-BOOT0, 47 PB9, 48 VDD, 49 EP

## STM32G473CBT6
designator U?  (value not drawn)
Manufacturer: ST(意法半导体); Add into BOM: yes; Symbol: STM32G473CBT6; Device: STM32G473CBT6; Supplier: LCSC; Supplier Part: C730111; Manufacturer Part: STM32G473CBT6; JLCPCB Part Class: Extended Part; LCSC Part Name: STM32G473CBT6; Supplier Footprint: LQFP-48(7x7); Datasheet: https://atta.szlcsc.com/upload/public/pdf/source/20200902/C730111_19331807E2800E1C1C13BFFAAC550E20.pdf; Convert to PCB: yes
footprint LQFP-48
pins: 1 VBAT, 2 PC13, 3 PC14, 4 PC15, 5 PF0-OSC_IN, 6 PF1-OSC_OUT, 7 PG10-NRST, 8 PA0, 9 PA1, 10 PA2, 11 PA3, 12 PA4, 13 PA5, 14 PA6, 15 PA7, 16 PB0, 17 PB1, 18 PB2, 19 VSSA, 20 VREF+, 21 VDDA, 22 PB10, 23 VSS, 24 VDD, 25 PB11, 26 PB12, 27 PB13, 28 PB14, 29 PB15, 30 PA8, 31 PA9, 32 PA10, 33 PA11, 34 PA12, 35 VSS, 36 VDD, 37 PA13, 38 PA14, 39 PA15, 40 PB3, 41 PB4, 42 PB5, 43 PB6, 44 PB7, 45 PB8-BOOT0, 46 PB9, 47 VSS, 48 VDD

## STM32G474CET6
designator U?  (value not drawn)
Manufacturer: ST(意法半导体); Symbol: STM32G473CBT6; Add into BOM: yes; Device: STM32G473CBT6; Supplier: LCSC; Supplier Part: C730111; Manufacturer Part: STM32G473CBT6; JLCPCB Part Class: Extended Part; LCSC Part Name: STM32G473CBT6; Supplier Footprint: LQFP-48(7x7); Datasheet: https://atta.szlcsc.com/upload/public/pdf/source/20200902/C730111_19331807E2800E1C1C13BFFAAC550E20.pdf; Convert to PCB: yes
footprint LQFP-48
pins: 1 VBAT, 2 PC13, 3 PC14, 4 PC15, 5 PF0-OSC_IN, 6 PF1-OSC_OUT, 7 PG10-NRST, 8 PA0, 9 PA1, 10 PA2, 11 PA3, 12 PA4, 13 PA5, 14 PA6, 15 PA7, 16 PB0, 17 PB1, 18 PB2, 19 VSSA, 20 VREF+, 21 VDDA, 22 PB10, 23 VSS, 24 VDD, 25 PB11, 26 PB12, 27 PB13, 28 PB14, 29 PB15, 30 PA8, 31 PA9, 32 PA10, 33 PA11, 34 PA12, 35 VSS, 36 VDD, 37 PA13, 38 PA14, 39 PA15, 40 PB3, 41 PB4, 42 PB5, 43 PB6, 44 PB7, 45 PB8-BOOT0, 46 PB9, 47 VSS, 48 VDD

## STM32H723ZGT6
designator U?  (value not drawn)
Manufacturer: ST(意法半导体); Add into BOM: yes; CPU Core: ARM-M系列; Program Storage Size: 1MB; RAM Size: 564KB; GPIO Ports Number: 112; Operating Voltage Range: 1.71V~3.6V; CPU Maximum Speed: 550MHz; Program Memory Type: FLASH; ADC (Bit): 12bit；16bit; DAC (Bit): 12bit; Universal Serial Bus: 有; Peripheral/Function: DMA；LCD/LED驱动；PWM; Symbol: STM32H723ZGT6; Device: STM32H723ZGT6; LCSC Part Name: STM32H723ZGT6; Supplier Part: C730146; Manufacturer Part: STM32H723ZGT6; Supplier Footprint: LQFP-144(20x20); JLCPCB Part Class: Extended Part; Datasheet: https://atta.szlcsc.com/upload/public/pdf/source/20200902/C730141_32325B298F902737689CA9A88D6BD2F2.pdf; Supplier: LCSC; Convert to PCB: yes; Operating Temperature Range: -40℃~+85℃; PWM (Bit): -; 8Bit Timer: -; 16Bit Timer: -; 32Bit Timer: -; CAN: -; UART/USART: -; I2C: -; I2S: -; SPI: -; Internal Comparator: -; communication protocol: -; Watchdog: 有; Real-Time Clock: -; Infrared Data Association: 有; Low-Voltage Detect: 有; CCP Capture/Compare: -; LCD Module: 有; LED Module: -; Secure Digital Input and Output: 有; Direct Memory Access: 有; Internal Oscillator: 有; Application Area: -
footprint LQFP-144_L20.0-W20.0-P0.50-LS22.0-BL
pins: 1 PE2, 2 PE3, 3 PE4, 4 PE5, 5 PE6, 6 VBAT, 7 PC13, 8 PC14-OSC32_IN, 9 PC15-OSC32_OUT, 10 PF0, 11 PF1, 12 PF2, 13 PF3, 14 PF4, 15 PF5, 16 VSS, 17 VDD, 18 PF6, 19 PF7, 20 PF8, 21 PF9, 22 PF10, 23 PH0-OSC_IN, 24 PH1-OSC_OUT, 25 NRST, 26 PC0, 27 PC1, 28 PC2_C, 29 PC3_C, 30 VDD, 31 VSSA, 32 VREF+, 33 VDDA, 34 PA0, 35 PA1, 36 PA2, 37 PA3, 38 VSS, 39 VDD, 40 PA4, 41 PA5, 42 PA6, 43 PA7, 44 PC4, 45 PC5, 46 PB0, 47 PB1, 48 PB2, 49 PF11, 50 PF12, 51 VSS, 52 VDD, 53 PF13, 54 PF14, 55 PF15, 56 PG0, 57 PG1, 58 PE7, 59 PE8, 60 PE9, 61 VSS, 62 VDD, 63 PE10, 64 PE11, 65 PE12, 66 PE13, 67 PE14, 68 PE15, 69 PB10, 70 PB11, 71 VCAP, 72 VDD, 73 PB12, 74 PB13, 75 PB14, 76 PB15, 77 PD8, 78 PD9, 79 PD10, 80 PD11, 81 PD12, 82 PD13, 83 VSS, 84 VDD, 85 PD14, 86 PD15, 87 PG2, 88 PG3, 89 PG4, 90 PG5, 91 PG6, 92 PG7, 93 PG8, 94 VSS, 95 VDD33USB, 96 PC6, 97 PC7, 98 PC8, 99 PC9, 100 PA8, 101 PA9, 102 PA10, 103 PA11, 104 PA12, 105 PA13, 106 VCAP, 107 VSS, 108 VDD, 109 PA14, 110 PA15, 111 PC10, 112 PC11, 113 PC12, 114 PD0, 115 PD1, 116 PD2, 117 PD3, 118 PD4, 119 PD5, 120 VSS, 121 VDD, 122 PD6, 123 PD7, 124 PG9, 125 PG10, 126 PG11, 127 PG12, 128 PG13, 129 PG14, 130 VSS, 131 VDD, 132 PG15, 133 PB3, 134 PB4, 135 PB5, 136 PB6, 137 PB7, 138 BOOT0, 139 PB8, 140 PB9, 141 PE0, 142 PE1, 143 PDR_ON, 144 VDD